# Altium integrated library EITlib.IntLib: 44 symbols
Pins are listed as number, name and electrical type; pins without a type are passive.

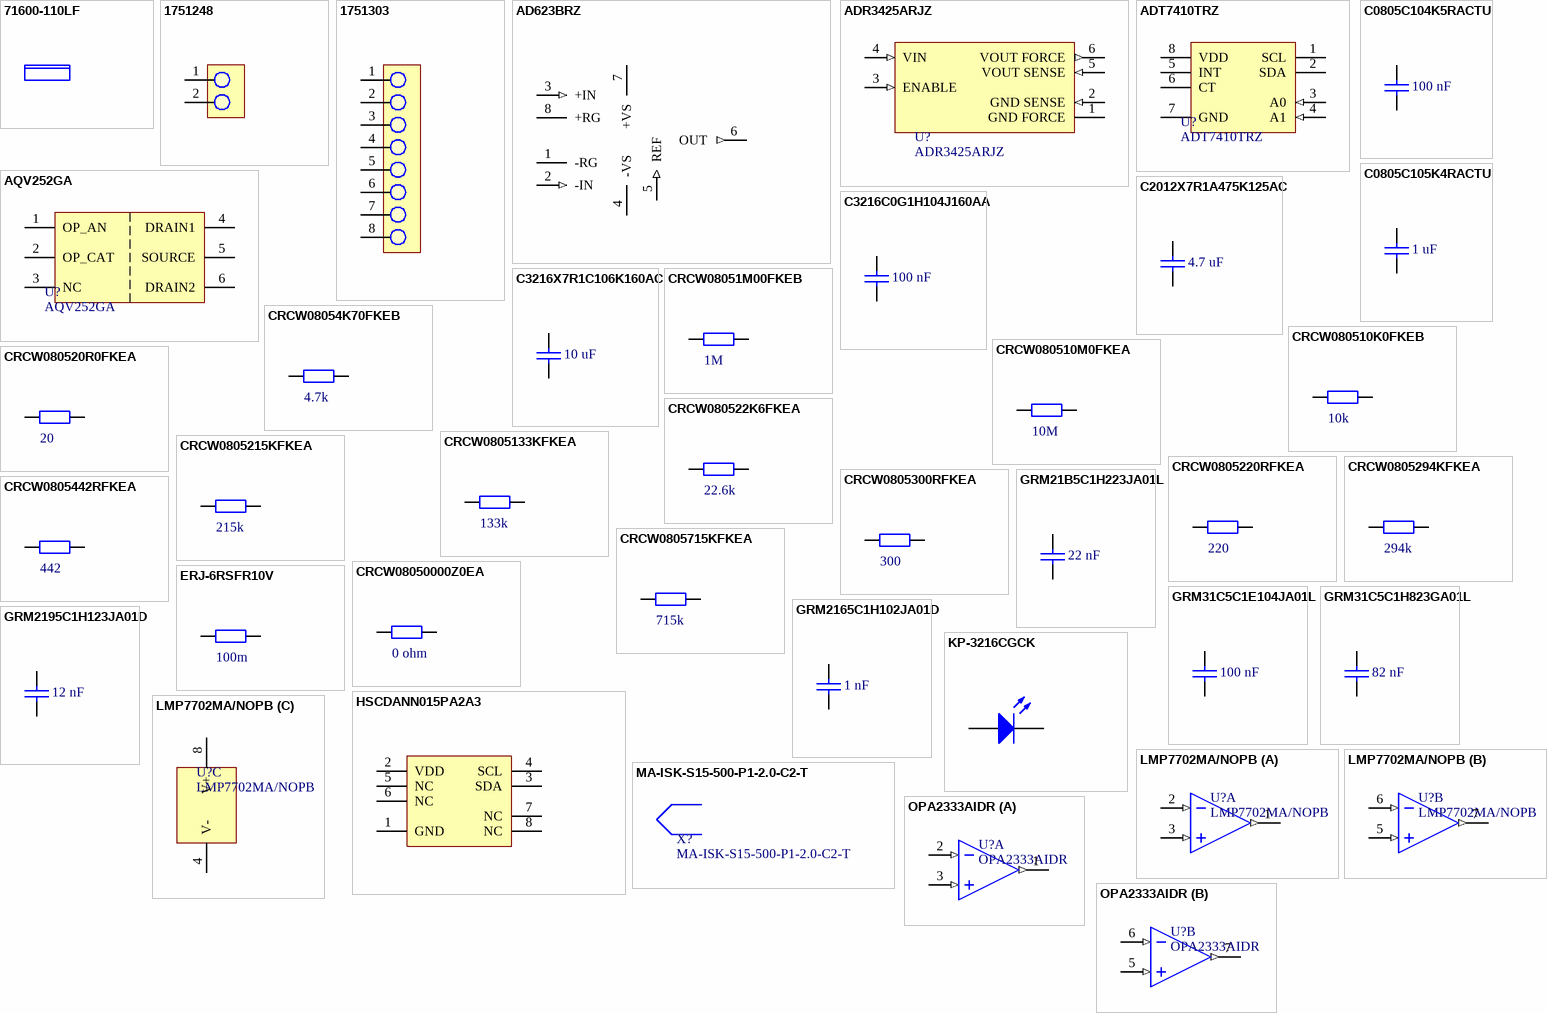
[diagram p0: symbols 71600-110LF to OPA2333AIDR]

## 71600-110LF
designator X?  (mechanical)
IDC socket, 10way, 2.54 mm; Manufacturer: FCI; ComponentLink1Description: Datasheet; ComponentLink1URL: http://www.farnell.com/datasheets/3453.pdf; Supplier 1: Farnell; Supplier Part Number 1: 1103927

## 1751248
designator J?
Terminal block, 2P, 3.5mm, screw; Manufacturer: Phoenix Contact; ComponentLink1Description: Datasheet; ComponentLink1URL: https://www.phoenixcontact.com/online/portal/us?uri=pxc-oc-itemdetail:pid=1751248&library=usen&pcck=P-11-01-01&tab=1; PackageReference: SIP; Supplier 1: Mouser; Supplier Part Number 1: 651-1751248
footprint Terminalblock Pheonix 2P
pins: 1, 2

## 1751303
designator J?
Terminal block, 8P, 3.5mm, screw; Manufacturer: Phoenix Contact; ComponentLink1Description: Datasheet; ComponentLink1URL: https://www.phoenixcontact.com/online/portal/us?uri=pxc-oc-itemdetail:pid=1751303&library=usen&pcck=P-11-01-01&tab=1; PackageReference: SIP; Supplier 1: Mouser; Supplier Part Number 1: 651-1751303
footprint TERMINALBLOCK pheonix 8p
pins: 1, 2, 3, 4, 5, 6, 7, 8

## AD623BRZ
designator U?
Instrumentation amplifier, rail to rail; ComponentLink1Description: Datasheet; ComponentLink1URL: http://www.analog.com/static/imported-files/data_sheets/AD623.pdf; Supplier 1: Mouser; Supplier Part Number 1: 584-AD623BRZ; PackageReference: SOIC-8; Supplier 2: Farnell; Supplier Part Number 2: 2305589
footprint AD623 (SOIC, 8-Leads, Body 4,90x3,90mm, Pitch 1,27mm, IPC Medium Density)
pins: 1 -RG, 2 -IN (in), 3 +IN (in), 4 -VS (power), 5 REF (in), 6 OUT (out), 7 +VS (power), 8 +RG

## ADR3425ARJZ
designator U?
Series voltage reference, 2.5V; Manufacturer: Analog Devices; PackageReference: SOT-23-6; ComponentLink1Description: Datasheet; ComponentLink1URL: http://www.analog.com/static/imported-files/data_sheets/ADR3412_ADR3420_ADR3425_ADR3430_ADR3433_ADR3440_ADR3450.pdf; Supplier 1: Mouser; Supplier Part Number 1: 584-ADR3425ARJZ-R7; Supplier 2: Farnell; Supplier Part Number 2: 1827384
footprint ADR3425 (SOT23, 6-Leads, Body 2,90x2,80mm, Pitch 0,95mm, IPC Medium Density)
pins: 1 GND FORCE (power), 2 GND SENSE (in), 3 ENABLE (in), 4 VIN (in), 5 VOUT SENSE (in), 6 VOUT FORCE (out)

## ADT7410TRZ
designator U?
Temperature sensor, I2C output; PackageReference: SOIC-8; ComponentLink1Description: Datasheet; ComponentLink1URL: http://www.analog.com/static/imported-files/data_sheets/ADT7410.pdf; Supplier 1: Mouser; Supplier Part Number 1: 584-ADT7410TRZ; Supplier 2: Farnell; Supplier Part Number 2: 2102534
footprint ADT7410 (SOIC, Pitch = 1.27mm)
pins: 1 SCL (oc), 2 SDA (oc), 3 A0 (in), 4 A1 (in), 5 INT (oc), 6 CT (oc), 7 GND (power), 8 VDD (power)

## AQV252GA
designator U?
Solid state relay, DC/AC, 60V, 2.5A; Manufacturer: Panasonic; PackageReference: SMD-6; ComponentLink1Description: Datasheet; ComponentLink1URL: http://www3.panasonic.biz/ac/e/control/relay/photomos/he/he1a_aqv25_g/index.jsp; Supplier 1: Mouser; Supplier Part Number 1: 769-AQV252GA
footprint AQV252GA Panasonic
pins: 1 OP_AN, 2 OP_CAT, 3 NC, 4 DRAIN1, 5 SOURCE, 6 DRAIN2

## C0805C104K5RACTU
designator C?  value 100 nF
Ceramic capacitor, X7R, 10%, 50V; Manufacturer: Kemet; ComponentLink1Description: Datasheet; ComponentLink1URL: http://www.kemet.com/kemet/web/homepage/kechome.nsf/vapubfiles/KEM_C1002_X7R_SMD.pdf/$file/KEM_C1002_X7R_SMD.pdf; PackageReference: 0805; Supplier 1: Mouser; Supplier Part Number 1: 80-C0805C104K5R; Supplier 2: Farnell; Supplier Part Number 2: 1414664
footprint Cap Kemet 0805
pins: 1, 2

## C0805C105K4RACTU
designator C?  value 1 uF
Ceramic capacitor, X7R, 10%, 16V; Manufacturer: Kemet; ComponentLink1Description: Datasheet; ComponentLink1URL: http://www.kemet.com/kemet/web/homepage/kechome.nsf/vapubfiles/KEM_C1002_X7R_SMD.pdf/$file/KEM_C1002_X7R_SMD.pdf; PackageReference: 0805; Supplier 1: Mouser; Supplier Part Number 1: 80-C0805C105K4R; Supplier 2: Farnell; Supplier Part Number 2: 9227792
footprint Cap Kemet 0805
pins: 1, 2

## C2012X7R1A475K125AC
designator C?  value 4.7 uF
Ceramic capacitor, X7R, 10%, 10V; Manufacturer: TDK; ComponentLink1Description: Datasheet; ComponentLink1URL: http://product.tdk.com/capacitor/mlcc/en/documents/C2012X7R1A475K125AC.pdf; PackageReference: 0805; Supplier 1: Mouser; Supplier Part Number 1: 810-C2012X7R1A475K
footprint Cap TDK0805
pins: 1, 2

## C3216C0G1H104J160AA
designator C?  value 100 nF
Ceramic capacitor, C0G, 5%, 50V; Manufacturer: TDK; ComponentLink1Description: Datasheet; ComponentLink1URL: http://www.mouser.com/ds/2/400/C3216C0G1H104J160AA-265044.pdf; PackageReference: 1206; Supplier 1: Mouser; Supplier Part Number 1: 810-C3216C0G1H104J
pins: 1, 2

## C3216X7R1C106K160AC
designator C?  value 10 uF
Ceramic capacitor, X7R, 10%, 16V; Manufacturer: TDK; ComponentLink1Description: Datasheet; ComponentLink1URL: http://www.mouser.com/ds/2/400/C3216X7R1C106K160AC-265314.pdf; PackageReference: 1206; Supplier 1: Mouser; Supplier Part Number 1: 810-C3216X7R1C106K; Supplier 2: Farnell; Supplier Part Number 2: 1907353
footprint Cap TDK1206
pins: 1, 2

## CRCW08051M00FKEB
designator R?  value 1M
Thick film resistor, 1%, 125mW; Manufacturer: Vishay; ComponentLink1Description: Datasheet; ComponentLink1URL: http://www.vishay.com/docs/20035/dcrcwe3.pdf; PackageReference: 0805; Supplier 1: Mouser; Supplier Part Number 1: 71-CRCW08051M00FKEB
footprint Res Vishay0805
pins: 1, 2

## CRCW08054K70FKEB
designator R?  value 4.7k
Thick film resistor, 1%, 125mW; Manufacturer: Vishay; ComponentLink1Description: Datasheet; ComponentLink1URL: http://www.vishay.com/docs/20035/dcrcwe3.pdf; PackageReference: 0805; Supplier 1: Mouser; Supplier Part Number 1: 71-CRCW08054K70FKEB
footprint Res Vishay0805
pins: 1, 2

## CRCW080510K0FKEB
designator R?  value 10k
Thick film resistor, 1%, 125mW; Manufacturer: Vishay; ComponentLink1Description: Datasheet; ComponentLink1URL: http://www.vishay.com/docs/20035/dcrcwe3.pdf; PackageReference: 0805; Supplier 1: Mouser; Supplier Part Number 1: 71-CRCW080510K0FKEB
footprint Res Vishay0805
pins: 1, 2

## CRCW080510M0FKEA
designator R?  value 10M
Thick film resistor, 1%, 125mW; Manufacturer: Vishay; ComponentLink1Description: Datasheet; ComponentLink1URL: http://www.vishay.com/docs/20035/dcrcwe3.pdf; PackageReference: 0805; Supplier 1: Mouser; Supplier Part Number 1: 71-CRCW0805-10M-E3
footprint Res Vishay0805
pins: 1, 2

## CRCW080520R0FKEA
designator R?  value 20
Thick film resistor, 1%, 125mW; Manufacturer: Vishay; ComponentLink1Description: Datasheet; ComponentLink1URL: http://www.vishay.com/docs/20035/dcrcwe3.pdf; PackageReference: 0805; Supplier 1: Mouser; Supplier Part Number 1: 71-CRCW0805-20-E3
footprint Res Vishay0805
pins: 1, 2

## CRCW080522K6FKEA
designator R?  value 22.6k
Thick film resistor, 1%, 125mW; Manufacturer: Vishay; ComponentLink1Description: Datasheet; ComponentLink1URL: http://www.vishay.com/docs/20035/dcrcwe3.pdf; PackageReference: 0805; Supplier 1: Mouser; Supplier Part Number 1: 71-CRCW0805-22.6K-E3; Supplier 2: Farnell; Supplier Part Number 2: 1652961
footprint Res Vishay0805
pins: 1, 2

## CRCW0805133KFKEA
designator R?  value 133k
Thick film resistor, 1%, 125mW; Manufacturer: Vishay; ComponentLink1Description: Datasheet; ComponentLink1URL: http://www.vishay.com/docs/20035/dcrcwe3.pdf; PackageReference: 0805; Supplier 1: Mouser; Supplier Part Number 1: 71-CRCW0805-133K-E3
footprint Res Vishay0805
pins: 1, 2

## CRCW0805215KFKEA
designator R?  value 215k
Thick film resistor, 1%, 125mW; Manufacturer: Vishay; ComponentLink1Description: Datasheet; ComponentLink1URL: http://www.vishay.com/docs/20035/dcrcwe3.pdf; PackageReference: 0805; Supplier 1: Mouser; Supplier Part Number 1: 71-CRCW0805-215K-E3; Supplier 2: Farnell; Supplier Part Number 2: 1652955
footprint Res Vishay0805
pins: 1, 2

## CRCW0805220RFKEA
designator R?  value 220
Thick film resistor, 1%, 125mW; Manufacturer: Vishay; ComponentLink1Description: Datasheet; ComponentLink1URL: http://www.vishay.com/docs/20035/dcrcwe3.pdf; PackageReference: 0805; Supplier 1: Mouser; Supplier Part Number 1: 71-CRCW0805-220-E3
footprint Res Vishay0805
pins: 1, 2

## CRCW0805294KFKEA
designator R?  value 294k
Thick film resistor, 1%, 125mW; Manufacturer: Vishay; ComponentLink1Description: Datasheet; ComponentLink1URL: http://www.vishay.com/docs/20035/dcrcwe3.pdf; PackageReference: 0805; Supplier 1: Mouser; Supplier Part Number 1: 71-CRCW0805294KFKEA
footprint Res Vishay0805
pins: 1, 2

## CRCW0805300RFKEA
designator R?  value 300
Thick film resistor, 1%, 125mW; Manufacturer: Vishay; ComponentLink1Description: Datasheet; ComponentLink1URL: http://www.vishay.com/docs/20035/dcrcwe3.pdf; PackageReference: 0805; Supplier 1: Mouser; Supplier Part Number 1: 71-CRCW0805300RFKEA
footprint Res Vishay0805
pins: 1, 2

## CRCW0805442RFKEA
designator R?  value 442
Thick film resistor, 1%, 125mW; Manufacturer: Vishay; ComponentLink1Description: Datasheet; ComponentLink1URL: http://www.vishay.com/docs/20035/dcrcwe3.pdf; PackageReference: 0805; Supplier 1: Mouser; Supplier Part Number 1: 71-CRCW0805-442-E3
footprint Res Vishay0805
pins: 1, 2

## CRCW0805715KFKEA
designator R?  value 715k
Thick film resistor, 1%, 125mW; Manufacturer: Vishay; ComponentLink1Description: Datasheet; ComponentLink1URL: http://www.vishay.com/docs/20035/dcrcwe3.pdf; PackageReference: 0805; Supplier 1: Mouser; Supplier Part Number 1: 71-CRCW0805715KFKEA
footprint Res Vishay0805
pins: 1, 2

## CRCW08050000Z0EA
designator R?  value 0 ohm
Thick film resistor, 1%, 125mW; Manufacturer: Vishay; ComponentLink1Description: Datasheet; ComponentLink1URL: http://www.vishay.com/docs/20035/dcrcwe3.pdf; PackageReference: 0805; Supplier 1: Mouser; Supplier Part Number 1: 71-CRCW0805-0-E3
footprint Res Vishay0805
pins: 1, 2

## ERJ-6RSFR10V
designator R?  value 100m
Thick film resistor, 1%, 125mW; Manufacturer: Panasonic; ComponentLink1Description: Datasheet; ComponentLink1URL: http://industrial.panasonic.com/www-data/pdf/AOA0000/AOA0000CE3.pdf; PackageReference: 0805; Supplier 1: Mouser; Supplier Part Number 1: 667-ERJ-6RSFR10V; Supplier 2: Farnell; Supplier Part Number 2: 1717785
footprint Res panasonic0805
pins: 1, 2

## GRM21B5C1H223JA01L
designator C?  value 22 nF
Ceramic capacitor, C0G, 5%, 50V; Manufacturer: Murata; ComponentLink1Description: Datasheet; ComponentLink1URL: http://psearch.murata.com/capacitor/product/GRM21B5C1H223JA01%23.pdf; PackageReference: 0805; Supplier 1: Mouser; Supplier Part Number 1: 81-GRM215C1H223JA01L; Supplier 2: Farnell; Supplier Part Number 2: 1828943
footprint CAP0805 murata (Chip Capacitor, 2-Leads, Body 2,00x1,25mm, IPC Medium Density)
pins: 1, 2

## GRM31C5C1E104JA01L
designator C?  value 100 nF
Ceramic capacitor, C0G, 5%, 25V; Manufacturer: Murata; ComponentLink1Description: Datasheet; ComponentLink1URL: http://psearch.murata.com/capacitor/product/GRM31C5C1E104JA01%23.pdf; PackageReference: 1206; Supplier 1: Mouser; Supplier Part Number 1: 81-GRM31C5C1E104JA01
footprint Cap1206 Murata
pins: 1, 2

## GRM31C5C1H823GA01L
designator C?  value 82 nF
Ceramic capacitor, C0G, 2%, 50V; Manufacturer: Murata; ComponentLink1Description: Datasheet; ComponentLink1URL: http://www.murata.com/products/catalog/pdf/c02e.pdf; PackageReference: 1206; Supplier 1: Mouser; Supplier Part Number 1: 81-GRM31C5C1H823GA1L
footprint Cap1206 Murata
pins: 1, 2

## GRM2165C1H102JA01D
designator C?  value 1 nF
Ceramic capacitor, C0G, 5%, 50V; Manufacturer: Murata; ComponentLink1Description: Datasheet; ComponentLink1URL: http://psearch.murata.com/capacitor/product/GRM2165C1H102JA01%23.pdf; PackageReference: 0805; Supplier 1: Mouser; Supplier Part Number 1: 81-GRM40C102J50D
footprint CAP0805 murata (Chip Capacitor, 2-Leads, Body 2,00x1,25mm, IPC Medium Density)
pins: 1, 2

## GRM2195C1H123JA01D
designator C?  value 12 nF
Ceramic capacitor, C0G, 5%, 50V; Manufacturer: Murata; ComponentLink1Description: Datasheet; ComponentLink1URL: http://psearch.murata.com/capacitor/product/GRM2195C1H123JA01%23.pdf; PackageReference: 0805; Supplier 1: Mouser; Supplier Part Number 1: 81-GRM2195C1H123JA1D
footprint CAP0805 murata (Chip Capacitor, 2-Leads, Body 2,00x1,25mm, IPC Medium Density)
pins: 1, 2

## HSCDANN015PA2A3
designator U?
Absolute pressure sensor, I2C output; PackageReference: DIP-8; ComponentLink1Description: Datasheet; ComponentLink1URL: http://sensing.honeywell.com/honeywell-sensing-hsc-high-accuracy-silicon-pressure-sensors-digital-product-sheet-008214-2-en.pdf?name=HSCMAND015PASA5; Supplier 1: Mouser; Supplier Part Number 1: 785-HSCDANN015PA2A3
footprint HSCDANN015PA2A3 Pressure sensor
pins: 1 GND (power), 2 VDD (power), 3 SDA (oc), 4 SCL (oc), 5 NC, 6 NC, 7 NC, 8 NC

## KP-3216CGCK
designator D?
Chip led lamp,green, 50mcd @ 20mA; Manufacturer: Kingbright; ComponentLink1Description: Datasheet; ComponentLink1URL: http://www.farnell.com/datasheets/1683499.pdf; PackageReference: 3.2x1.6mm; Supplier 1: Farnell; Supplier Part Number 1: 2290333
footprint Diode Kingbright; pin to pad 1>A 2>K
pins: 1 A, 2 K

## LMP7702MA/NOPB
designator U?
Op. amp, dual, rail-to-rail, single supply; PackageReference: SOIC-8; ComponentLink1Description: Datasheet; ComponentLink1URL: http://www.ti.com/lit/ds/symlink/lmp7702.pdf; Supplier 1: Farnell; Supplier Part Number 1: 1651867
footprint OPA2333AIDR (SOIC pitch=1.27mm)
part A pins: 1 OUT A (out), 2 -IN A (in), 3 +IN A (in)
part B pins: 5 +IN B (in), 6 -IN B (in), 7 OUT B (out)
part C pins: 4 V- (power), 8 V+ (power)

## MA-ISK-S15-500-P1-2.0-C2-T
designator X?  (mechanical)
Type K thermocouple, mineral insulated; Manufacturer: Labfacility; PackageReference: http://www.farnell.com/datasheets/49105.pdf; ComponentLink1Description: Datasheet; ComponentLink1URL: http://www.ti.com/lit/ds/slvs720d/slvs720d.pdf; Supplier 1: Farnell; Supplier Part Number 1: 1289623

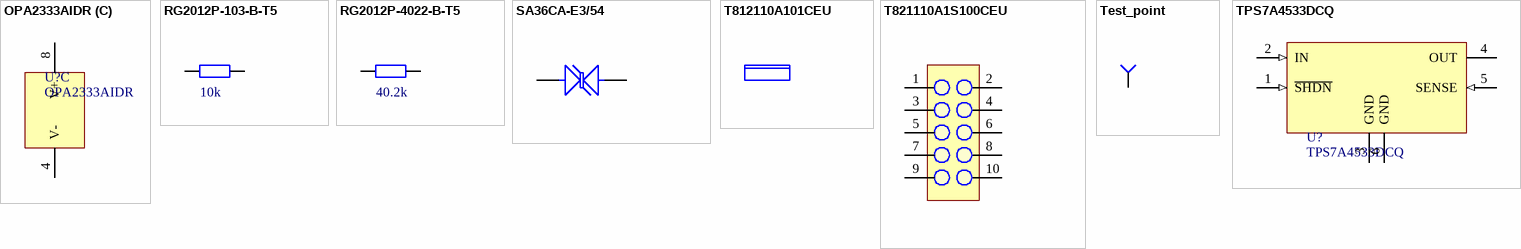
[diagram p1: symbols OPA2333AIDR to TPS7A4533DCQ]

## OPA2333AIDR
designator U?
Op. amp, dual, rail-to-rail, single supply; PackageReference: SOIC-8; ComponentLink1Description: Datasheet; ComponentLink1URL: http://www.ti.com/lit/ds/sbos351c/sbos351c.pdf; Supplier 1: Mouser; Supplier Part Number 1: 595-OPA2333AIDR
part A pins: 1 OUT A (out), 2 -IN A (in), 3 +IN A (in)
part B pins: 5 +IN B (in), 6 -IN B (in), 7 OUT B (out)
part C pins: 4 V- (power), 8 V+ (power)

## RG2012P-103-B-T5
designator R?  value 10k
Thin film resistor, 0.1%, 100mW; Manufacturer: Susumu; ComponentLink1Description: Datasheet; ComponentLink1URL: http://susumu-usa.com/pdf/RG_RM_RGH_DATASHEET.pdf; PackageReference: 0805; Supplier 1: Mouser; Supplier Part Number 1: 754-RG2012P-103-B-T5
footprint RES SSM 0805
pins: 1, 2

## RG2012P-4022-B-T5
designator R?  value 40.2k
Thin film resistor, 0.1%, 100mW; Manufacturer: Susumu; ComponentLink1Description: Datasheet; ComponentLink1URL: http://susumu-usa.com/pdf/RG_RM_RGH_DATASHEET.pdf; PackageReference: 0805; Supplier 1: Mouser; Supplier Part Number 1: 754-RG2012P-4022-BT5
footprint RES SSM 0805
pins: 1, 2

## SA36CA-E3/54
designator TVS?
TVS diode, bidirectional, 36 V; Manufacturer: Vishay; ComponentLink1Description: Datasheet; ComponentLink1URL: http://www.vishay.com/docs/88378/sa50athrusa170ca.pdf; PackageReference: DO-204AC; Supplier 1: Mouser; Supplier Part Number 1: 625-SA36CA-E3/54
footprint Diode Vishay; pin to pad 1>A 2>K
pins: 1 A, 2 K

## T812110A101CEU
designator X?  (mechanical)
IDC socket, 10way, 2.54 mm; Manufacturer: Amphenol; ComponentLink1Description: Datasheet; ComponentLink1URL: http://www.farnell.com/datasheets/1648841.pdf; Supplier 1: Farnell; Supplier Part Number 1: 2215247

## T821110A1S100CEU
designator J?
Header, 2x5, 2.54mm; Manufacturer: Amphenol; ComponentLink1Description: Datasheet; ComponentLink1URL: http://www.farnell.com/datasheets/1648843.pdf; PackageReference: DIP-10; Supplier 1: Farnell; Supplier Part Number 1: 2215304
footprint Header 10P
pins: 1, 2, 3, 4, 5, 6, 7, 8, 9, 10

## Test_point
designator TP?  (value not drawn)
ComponentLink1Description: Datasheet
footprint Testpoint; pin to pad 0>1
pins: 0

## TPS7A4533DCQ
designator U?
LDO regulator, 3.3V, 1.5A; Manufacturer: Texas Instruments; PackageReference: SOT-223-6; ComponentLink1Description: Datasheet; ComponentLink1URL: http://www.ti.com/lit/ds/slvs720d/slvs720d.pdf; Supplier 1: Mouser; Supplier Part Number 1: 595-TPS7A4533DCQT
footprint TPS7A4533DCQ (SOT223, 6-Leads, Body 6,50x7,06mm (avg), Pitch 1,27mm, IPC Medium Density)
pins: 1 ~{SHDN} (in), 2 IN (in), 3 GND (power), 4 OUT (power), 5 SENSE (in), 6 GND (power)